# Altium footprint library Pcb_Flash_lib.PcbLib: 1 footprints
Each footprint in its own frame and in the unit in brackets; x right, y up, seen from the top. Pads: shape width x height; smd on the part's side, far side on the other; paste and mask are expansions set on the pad; w line width, h text height; cw(c..) or ccw(c..) is an arc to the next point about the centre after c.
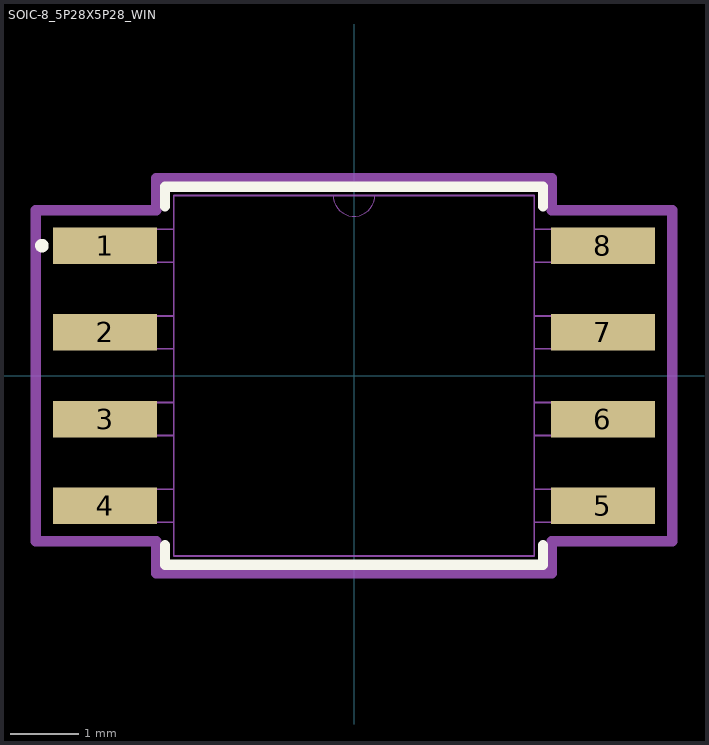
[diagram p0: the footprint, top view; thin cyan lines are the x and y axes]

## SOIC-8_5P28X5P28_WIN [mil]
pads (8):
  rect 60x21 smd paste+0 mask+0: 1(-143.5,75) 2(-143.5,25) 3(-143.5,-25) 4(-143.5,-75) 5(143.5,-75) 6(143.5,-25) 7(143.5,25) 8(143.5,75)
Top Overlay:
  circle w3.94: c-180,75 r1.97
  lines w6: -109,-97.8 -109,-109 109,-109 109,-97.8 ; -109,97.8 -109,109 109,109 109,97.8
Mechanical 13:
  lines w0: -12,104 ccw(c0,104) 12,104
  lines w1: -159.5,-84.5 -104,-84.5 -104,-65.5 -159.5,-65.5 -159.5,-84.5 ; -159.5,-34.5 -104,-34.5 -104,-15.5 -159.5,-15.5 -159.5,-34.5 ; -159.5,15.5 -104,15.5 -104,34.5 -159.5,34.5 -159.5,15.5 ; -159.5,65.5 -104,65.5 -104,84.5 -159.5,84.5 -159.5,65.5 ; -104,-104 -104,104 104,104 104,-104 -104,-104 ; 104,-84.5 159.5,-84.5 159.5,-65.5 104,-65.5 104,-84.5 ; 104,-34.5 159.5,-34.5 159.5,-15.5 104,-15.5 104,-34.5 ; 104,15.5 159.5,15.5 159.5,34.5 104,34.5 104,15.5 ; 104,65.5 159.5,65.5 159.5,84.5 104,84.5 104,65.5
Mechanical 15:
  lines w6: -183.5,-95.5 -114,-95.5 -114,-114 114,-114 114,-95.5 183.5,-95.5 183.5,95.5 114,95.5 114,114 -114,114 -114,95.5 -183.5,95.5 -183.5,-95.5
3D body "SOIC-8_5P28X5P28_WIN.step": height 85.12, standoff 0, extent -159.49,-104.02 159.49,104.02